# Altium footprint library connectors.PcbLib: 10 footprints
Each footprint in its own frame and in the unit in brackets; x right, y up, seen from the top. Pads: shape width x height; smd on the part's side, far side on the other; paste and mask are expansions set on the pad; w line width, h text height; cw(c..) or ccw(c..) is an arc to the next point about the centre after c.
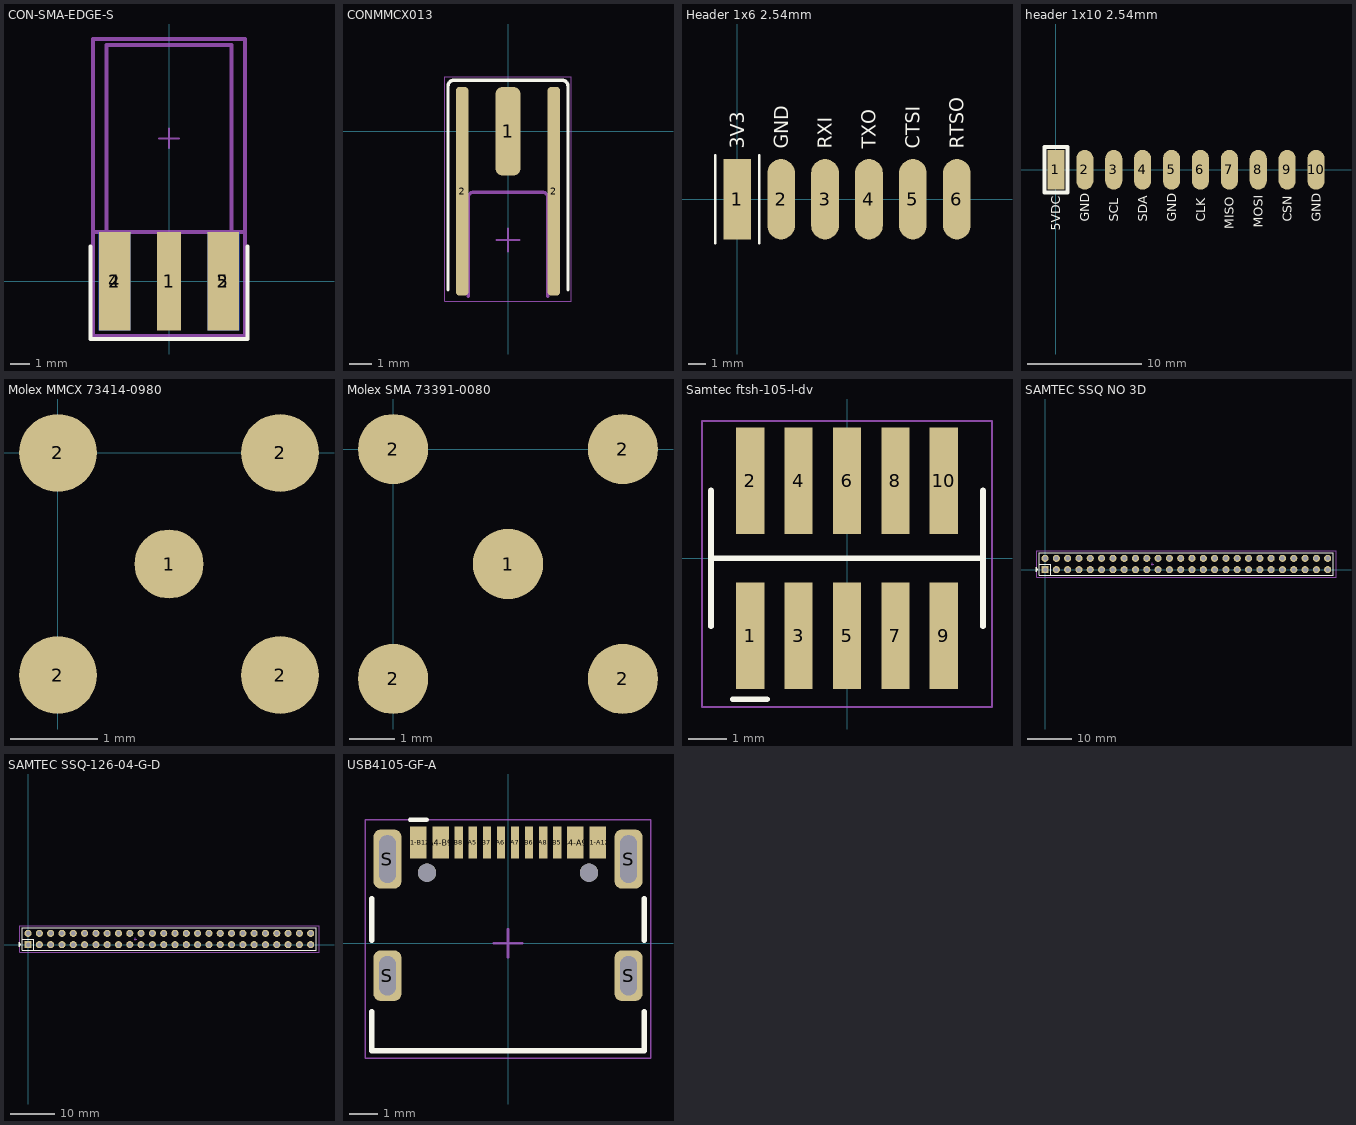
[diagram p0: the footprints below, top view; thin cyan lines are the x and y axes]

## CON-SMA-EDGE-S [mm] "CON-SMA-EDGE-S"
pads (5):
  rect 1.2x5 smd paste+0 mask+0: 1(0,0)
  rect 1.6x5 smd paste+0 mask+0: 2(-2.77,0) 2(2.77,0)
  rect 1.6x5 smd far side paste+0 mask+0: 4(-2.77,0) 5(2.77,0)
Top Overlay:
  lines w0.2: -4,1.76 -4,-2.94 4,-2.94 4,1.76
Mechanical 10:
  lines w0.2: -3.865,-2.795 -3.865,12.315 3.865,12.315 3.865,-2.795 -3.865,-2.795
Mechanical 12:
  lines w0.2: -3.865,2.5 3.865,2.5 ; -3.175,2.5 -3.175,12.02 3.175,12.02 3.175,2.5 -3.175,2.5
Mechanical 15:
  lines w0.1: -0.5,7.26 0.5,7.26 ; 0,6.76 0,7.76
  lines w0.2: -3.865,-2.795 -3.865,12.315 3.865,12.315 3.865,-2.795 -3.865,-2.795
3D body "Conn_RF_Solutions_Ltd_CON-SMA-EDGE-S_eec.STEP": height 0.25, standoff 0, extent -3.67,-2.6 3.67,12.12

## CONMMCX013 [mm] "Linx technologies CONMMCX013 MMCX Jack PCB Cutout Edge Mount Connector"
pads (3):
  rrect50% 1.1x3.9 smd: 1(0,0)
  rrect50% 0.55x9.2 smd: 2(-2.025,-2.65) 2(2.025,-2.65)
Top Overlay:
  lines w0.15: -2.65,-7 -2.65,2 cw(c-2.4,2) -2.4,2.25 2.4,2.25 cw(c2.4,2) 2.65,2 2.65,-7
Mechanical 12:
  lines w0.15: -1.75,-7.3 -1.75,-2.9 cw(c-1.55,-2.9) -1.55,-2.7 0,-2.7 1.55,-2.7 cw(c1.55,-2.9) 1.75,-2.9 1.75,-7.3
Mechanical 15:
  lines w0.05: -2.8,-7.5 2.8,-7.5 2.8,2.4 -2.8,2.4 -2.8,-7.5
  lines w0.1: -0.5,-4.8 0.5,-4.8 ; 0,-5.3 0,-4.3
3D body "66012202111305.stp": height 2.15, standoff -1.35, extent -2.249,-7.375 2.25,0.125

## Header 1x6 2.54mm [mm] "Header 1x6 2.54mm THT for UART"
pads (6):
  rect 1.6x4.65 smd: 1(0,0)
  oval 1.6x4.65 smd: 2(2.54,0) 3(5.08,0) 4(7.62,0) 5(10.16,0) 6(12.7,0)
Top Overlay:
  lines w0.15: -1.27,-2.54 -1.27,2.54 ; 1.27,-2.54 1.27,2.54
  text "RTSO" at 13.1,2.924 h0.8
  text "CTSI" at 10.56,2.924 h0.8
  text "TXO" at 8.02,2.924 h0.8
  text "RXI" at 5.48,2.924 h0.8
  text "GND" at 2.94,2.924 h0.8
  text "3V3" at 0.4,2.924 h0.8

## header 1x10 2.54mm [mm] "header 1x10 2.54mm pitch"
pads (10):
  rect 1.5x3.5 smd: 1(0,0)
  oval 1.5x3.5 smd: 2(2.54,0) 3(5.08,0) 4(7.62,0) 5(10.16,0) 6(12.7,0) 7(15.24,0) 8(17.78,0) 9(20.32,0) 10(22.86,0)
Top Overlay:
  lines w0.35: -1,-2 1,-2 1,2 -1,2 -1,-2
  text "GND" at 23.26,-4.573 h0.8
  text "CSN" at 20.72,-4.573 h0.8
  text "MOSI" at 18.18,-5.106 h0.8
  text "MISO" at 15.64,-5.239 h0.8
  text "CLK" at 13.1,-4.573 h0.8
  text "GND" at 10.56,-4.573 h0.8
  text "SDA" at 8.02,-4.573 h0.8
  text "SCL" at 5.48,-4.573 h0.8
  text "GND" at 2.94,-4.573 h0.8
  text "5VDC" at 0.4,-5.372 h0.8

## Molex MMCX 73414-0980 [mil] "MMCX JACK, R/A, PCB 50 OHM / EWR15209-A"
pads (5):
  round 31 smd: 1(50,-50)
  round 35 smd: 2(0,-100) 2(0,0) 2(100,-100) 2(100,0)

## Molex SMA 73391-0080 [mil] "SMA JACK R/A PCB TH 50 OHMS SMA-J/PCB"
pads (5):
  round 61 smd: 1(100,-100) 2(0,-200) 2(0,0) 2(200,-200) 2(200,0)

## Samtec ftsh-105-l-dv [mm] "Samtec ftsh-105-l-dv"
pads (10):
  rect 0.74x2.79 smd paste+0 mask+0: 1(-2.54,-2.035) 2(-2.54,2.035) 3(-1.27,-2.035) 4(-1.27,2.035) 5(0,-2.035) 6(0,2.035) 7(1.27,-2.035) 8(1.27,2.035) 9(2.54,-2.035) 10(2.54,2.035)
Top Overlay:
  lines w0.15: -3.565,-1.78 -3.565,1.78 ; -3.565,0 3.565,0 ; -3,-3.7 -2.1,-3.7 ; 3.565,-1.78 3.565,1.78
Mechanical 15:
  lines w0.05: -3.8,-3.9 -3.8,3.6 3.8,3.6 3.8,-3.9 -3.8,-3.9
3D body "FTSH-105-01-L-DV.stp": height 6.11, standoff -0.01, extent -3.175,-2.921 3.175,2.921

## SAMTEC SSQ NO 3D [mm] "THROUGH-HOLE .025\" SQ POST SOCKET (2.54 mm) .100\" PITCH, SSW/SSQ SERIES"
pads (52):
  rect 1.6x1.6 hole 1: 1(0,0)
  round 1.6 hole 1: 2(0,2.54) 3(2.54,0) 4(2.54,2.54) 5(5.08,0) 6(5.08,2.54) 7(7.62,0) 8(7.62,2.54) 9(10.16,0) 10(10.16,2.54) 11(12.7,0) 12(12.7,2.54) 13(15.24,0) 14(15.24,2.54) 15(17.78,0) 16(17.78,2.54) 17(20.32,0) 18(20.32,2.54) 19(22.86,0) 20(22.86,2.54) 21(25.4,0) 22(25.4,2.54) 23(27.94,0) 24(27.94,2.54) 25(30.48,0) 26(30.48,2.54) 27(33.02,0) 28(33.02,2.54) 29(35.56,0) 30(35.56,2.54) 31(38.1,0) 32(38.1,2.54) 33(40.64,0) 34(40.64,2.54) 35(43.18,0) 36(43.18,2.54) 37(45.72,0) 38(45.72,2.54) 39(48.26,0) 40(48.26,2.54) 41(50.8,0) 42(50.8,2.54) 43(53.34,0) 44(53.34,2.54) 45(55.88,0) 46(55.88,2.54) 47(58.42,0) 48(58.42,2.54) 49(60.96,0) 50(60.96,2.54) 51(63.5,0) 52(63.5,2.54)
Top Overlay:
  lines w0.25: -1.27,-1.27 1.27,-1.27 1.27,1.27 -1.27,1.27 -1.27,-1.27
  lines w0.254: -1.27,-1.27 64.77,-1.27 64.77,3.81 -1.27,3.81 -1.27,-1.27
  lines w0.3: -2.032,-0.508 -2.032,0.508 -1.778,0 -2.032,-0.508
Mechanical 15:
  lines w0.1: 23.88,1.27 24.38,1.27 ; 24.13,1.02 24.13,1.52 ; -1.87,-1.73 65.37,-1.73 65.37,4.27 -1.87,4.27 -1.87,-1.73

## SAMTEC SSQ-126-04-G-D [mm] "THROUGH-HOLE .025\" SQ POST SOCKET (2.54 mm) .100\" PITCH, SSW/SSQ SERIES"
pads (52):
  rect 1.6x1.6 hole 1: 1(0,0)
  round 1.6 hole 1: 2(0,2.54) 3(2.54,0) 4(2.54,2.54) 5(5.08,0) 6(5.08,2.54) 7(7.62,0) 8(7.62,2.54) 9(10.16,0) 10(10.16,2.54) 11(12.7,0) 12(12.7,2.54) 13(15.24,0) 14(15.24,2.54) 15(17.78,0) 16(17.78,2.54) 17(20.32,0) 18(20.32,2.54) 19(22.86,0) 20(22.86,2.54) 21(25.4,0) 22(25.4,2.54) 23(27.94,0) 24(27.94,2.54) 25(30.48,0) 26(30.48,2.54) 27(33.02,0) 28(33.02,2.54) 29(35.56,0) 30(35.56,2.54) 31(38.1,0) 32(38.1,2.54) 33(40.64,0) 34(40.64,2.54) 35(43.18,0) 36(43.18,2.54) 37(45.72,0) 38(45.72,2.54) 39(48.26,0) 40(48.26,2.54) 41(50.8,0) 42(50.8,2.54) 43(53.34,0) 44(53.34,2.54) 45(55.88,0) 46(55.88,2.54) 47(58.42,0) 48(58.42,2.54) 49(60.96,0) 50(60.96,2.54) 51(63.5,0) 52(63.5,2.54)
Top Overlay:
  lines w0.25: -1.27,-1.27 1.27,-1.27 1.27,1.27 -1.27,1.27 -1.27,-1.27
  lines w0.254: -1.27,-1.27 64.77,-1.27 64.77,3.81 -1.27,3.81 -1.27,-1.27
  lines w0.3: -2.032,-0.508 -2.032,0.508 -1.778,0 -2.032,-0.508
Mechanical 15:
  lines w0.1: 23.88,1.27 24.38,1.27 ; 24.13,1.02 24.13,1.52 ; -1.87,-1.73 65.37,-1.73 65.37,4.27 -1.87,4.27 -1.87,-1.73
3D body "SSQ-126-03-G-D.stp": height 8.51, standoff -10.01, extent -1.524,-1.206 65.024,3.747

## USB4105-GF-A [mm] "USB4105-GF-A"
pads (18):
  rect 0.6x1.15 smd paste+0 mask+0: A1-B12(-3.2,3.59) A4-B9(-2.4,3.59) B1-A12(3.2,3.59) B4-A9(2.4,3.59)
  rect 0.3x1.15 smd paste+0 mask+0: A5(-1.25,3.59) A6(-0.25,3.59) A7(0.25,3.59) A8(1.25,3.59) B5(1.75,3.59) B6(0.75,3.59) B7(-0.75,3.59) B8(-1.75,3.59)
  rrect50% 1x1.8 hole 0.6 slot 1.4 at 90 deg: S(-4.3,-1.16) S(4.3,-1.16)
  rrect50% 1x2.1 hole 0.6 slot 1.7 at 90 deg: S(-4.3,3) S(4.3,3)
  round 0.65 hole 0.65 unplated paste-2539.97 mask+0: ""(-2.89,2.515) ""(2.89,2.515)
Top Overlay:
  lines w0.15: -3.5,4.4 -2.9,4.4
  lines w0.2: -4.865,-2.44 -4.865,-3.84 4.865,-3.84 4.865,-2.44 ; -4.865,0.11 -4.865,1.59 ; 4.865,0.11 4.865,1.59
Mechanical 15:
  lines w0.05: -5.1,-4.1 -5.1,4.4 5.1,4.4 5.1,-4.1 -5.1,-4.1
  lines w0.1: -0.5,0 0.5,0 ; 0,-0.5 0,0.5
3D body "Conn_GCT_USB4105-GF-A_eec.STEP": height 0.25, standoff 0, extent -4.965,-3.94 4.965,4.265